# EAGLE library part PIC32MX3XXH (library microchip)
32bit 64pin on the ICB-020 Board
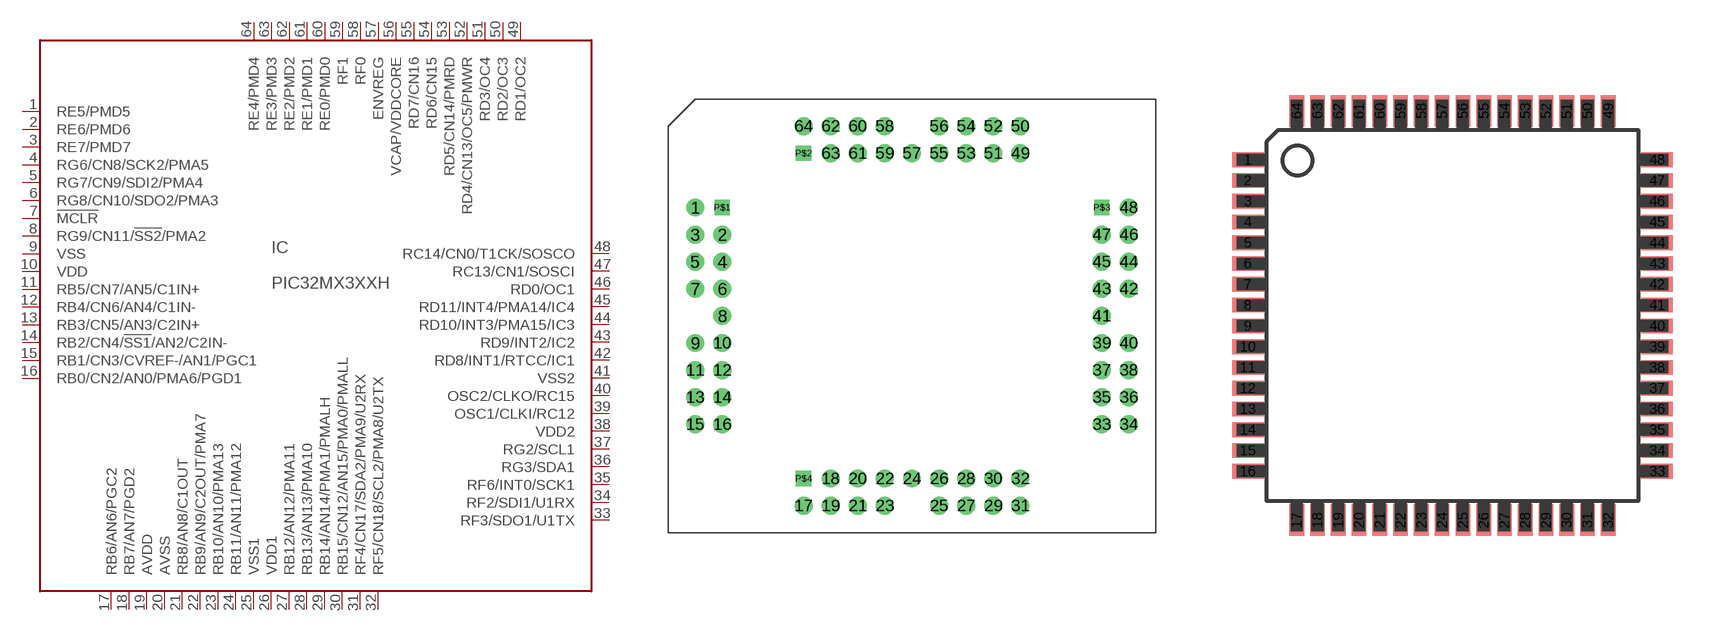
[diagram p31: symbol with the pads of ICB-020-64; footprints ICB-020-64, TQFP64]

Designator prefix IC

## PIC32MX3XXHICB  [ICB-020-64]
1  RE5/PMD5
2  RE6/PMD6
3  RE7/PMD7
4  RG6/CN8/SCK2/PMA5
5  RG7/CN9/SDI2/PMA4
6  RG8/CN10/SDO2/PMA3
7  !MCLR  in
8  RG9/CN11/!SS2!/PMA2
9  VSS  pwr
10  VDD  pwr
11  RB5/CN7/AN5/C1IN+
12  RB4/CN6/AN4/C1IN-
13  RB3/CN5/AN3/C2IN+
14  RB2/CN4/!SS1!/AN2/C2IN-
15  RB1/CN3/CVREF-/AN1/PGC1
16  RB0/CN2/AN0/PMA6/PGD1
17  RB6/AN6/PGC2
18  RB7/AN7/PGD2  in
19  AVDD  pwr
20  AVSS  pwr
21  RB8/AN8/C1OUT
22  RB9/AN9/C2OUT/PMA7
23  RB10/AN10/PMA13
24  RB11/AN11/PMA12
25  VSS1  pwr
26  VDD1  pwr
27  RB12/AN12/PMA11
28  RB13/AN13/PMA10
29  RB14/AN14/PMA1/PMALH
30  RB15/CN12/AN15/PMA0/PMALL
31  RF4/CN17/SDA2/PMA9/U2RX
32  RF5/CN18/SCL2/PMA8/U2TX
33  RF3/SDO1/U1TX
34  RF2/SDI1/U1RX
35  RF6/INT0/SCK1
36  RG3/SDA1
37  RG2/SCL1
38  VDD2  pwr
39  OSC1/CLKI/RC12  in
40  OSC2/CLKO/RC15  out
41  VSS2  pwr
42  RD8/INT1/RTCC/IC1
43  RD9/INT2/IC2
44  RD10/INT3/PMA15/IC3
45  RD11/INT4/PMA14/IC4
46  RD0/OC1
47  RC13/CN1/SOSCI
48  RC14/CN0/T1CK/SOSCO
49  RD1/OC2
50  RD2/OC3
51  RD3/OC4
52  RD4/CN13/OC5/PMWR
53  RD5/CN14/PMRD
54  RD6/CN15
55  RD7/CN16
56  VCAP/VDDCORE  pwr
57  ENVREG  pwr
58  RF0
59  RF1
60  RE0/PMD0
61  RE1/PMD1
62  RE2/PMD2
63  RE3/PMD3
64  RE4/PMD4

## PIC32MX3XXHTQFP  [TQFP64]
Pads as for ICB-020-64

## Footprint ICB-020-64 (pad centres in mm)
drill 0.5 pad 1.676 round: 1 -20.32,10.16; 2 -17.78,7.62; 3 -20.32,7.62; 4 -17.78,5.08; 5 -20.32,5.08; 6 -17.78,2.54; 7 -20.32,2.54; 8 -17.78,0; 9 -20.32,-2.54; 10 -17.78,-2.54; 11 -20.32,-5.08; 12 -17.78,-5.08; 13 -20.32,-7.62; 14 -17.78,-7.62; 15 -20.32,-10.16; 16 -17.78,-10.16; 17 -10.16,-17.78; 18 -7.62,-15.24; 19 -7.62,-17.78; 20 -5.08,-15.24; 21 -5.08,-17.78; 22 -2.54,-15.24; 23 -2.54,-17.78; 24 0,-15.24; 25 2.54,-17.78; 26 2.54,-15.24; 27 5.08,-17.78; 28 5.08,-15.24; 29 7.62,-17.78; 30 7.62,-15.24; 31 10.16,-17.78; 32 10.16,-15.24; 33 17.78,-10.16; 34 20.32,-10.16; 35 17.78,-7.62; 36 20.32,-7.62; 37 17.78,-5.08; 38 20.32,-5.08; 39 17.78,-2.54; 40 20.32,-2.54; 41 17.78,0; 42 20.32,2.54; 43 17.78,2.54; 44 20.32,5.08; 45 17.78,5.08; 46 20.32,7.62; 47 17.78,7.62; 48 20.32,10.16; 49 10.16,15.24; 50 10.16,17.78; 51 7.62,15.24; 52 7.62,17.78; 53 5.08,15.24; 54 5.08,17.78; 55 2.54,15.24; 56 2.54,17.78; 57 0,15.24; 58 -2.54,17.78; 59 -2.54,15.24; 60 -5.08,17.78; 61 -5.08,15.24; 62 -7.62,17.78; 63 -7.62,15.24; 64 -10.16,17.78
drill 0.5 pad 1.422 square: P$1 -17.78,10.16; P$2 -10.16,15.24; P$3 17.78,10.16; P$4 -10.16,-15.24

## Footprint TQFP64 (pad centres in mm)
Thin Quad Flat Pack
smd 1.194 x 0.559: 1 -7.76,5.905; 2 -7.76,5.118; 3 -7.76,4.331; 4 -7.76,3.543; 5 -7.76,2.756; 6 -7.76,1.968; 7 -7.76,1.181; 8 -7.76,0.394; 9 -7.76,-0.394; 10 -7.76,-1.181; 11 -7.76,-1.968; 12 -7.76,-2.756; 13 -7.76,-3.543; 14 -7.76,-4.331; 15 -7.76,-5.118; 16 -7.76,-5.905; 33 7.76,-5.905; 34 7.76,-5.118; 35 7.76,-4.331; 36 7.76,-3.543; 37 7.76,-2.756; 38 7.76,-1.968; 39 7.76,-1.181; 40 7.76,-0.394; 41 7.76,0.394; 42 7.76,1.181; 43 7.76,1.968; 44 7.76,2.756; 45 7.76,3.543; 46 7.76,4.331; 47 7.76,5.118; 48 7.76,5.905
smd 0.559 x 1.194: 17 -5.905,-7.76; 18 -5.118,-7.76; 19 -4.331,-7.76; 20 -3.543,-7.76; 21 -2.756,-7.76; 22 -1.968,-7.76; 23 -1.181,-7.76; 24 -0.394,-7.76; 25 0.394,-7.76; 26 1.181,-7.76; 27 1.968,-7.76; 28 2.756,-7.76; 29 3.543,-7.76; 30 4.331,-7.76; 31 5.118,-7.76; 32 5.905,-7.76; 49 5.905,7.76; 50 5.118,7.76; 51 4.331,7.76; 52 3.543,7.76; 53 2.756,7.76; 54 1.968,7.76; 55 1.181,7.76; 56 0.394,7.76; 57 -0.394,7.76; 58 -1.181,7.76; 59 -1.968,7.76; 60 -2.756,7.76; 61 -3.543,7.76; 62 -4.331,7.76; 63 -5.118,7.76; 64 -5.905,7.76